# Altium integrated library UUD1H221MNL1GS.IntLib: 1 symbol
Pins are listed as number, name and electrical type; pins without a type are passive.

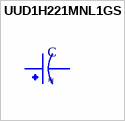
[diagram p0: symbol UUD1H221MNL1GS]

## UUD1H221MNL1GS
designator C
220ÂµF 50V Aluminum Electrolytic Capacitors Radial, Can - SMD 5000 Hrs @ 105Â°C; MP: UUD1H221MNL1GS; MF: Nichicon; Availability: Unavailable; Package: Radial Nichicon; Value: *; Price: None; SnapEDA_Link: https://www.snapeda.com/parts/UUD1H221MNL1GS/Nichicon/view-part/2297895/?ref=snap
footprint CAPAE1030X1080N
pins: 1, 2